# EAGLE library part RTE44009 (library HyTechDevices)
TE/Schrack Double Pull Single Throw Relay 9VDC Datasheet <https://www.te.com/commerce/DocumentDelivery/DDEController?Action=srchrtrv&DocNm=RT2&DocType=DS&DocLang=English> Product Page <https://www.te.com/usa-en/product-3-1393243-1.html?q=rte44009&source=headerl> Digikey <https://www.digikey.com/en/products/detail/te-connectivity-potter-brumfield-relays/RTE44009/1128653?s=N4IgTCBcDaIE4BcCmAWFAGdBOEBdAvkA>
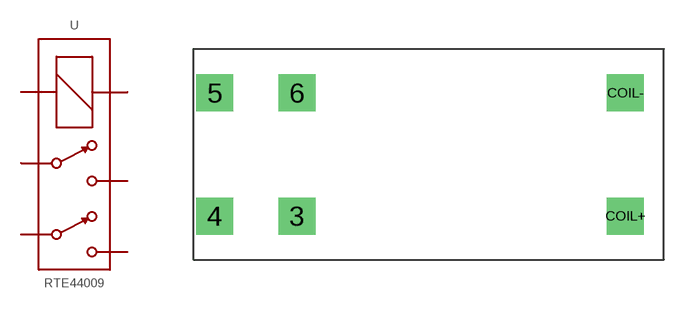
[diagram p43: symbol with the pads of RELAY_DPST; footprint RELAY_DPST]

Designator prefix -

## RTE44009  [RELAY_DPST]
3  3
4  4
5  5
6  6
COIL+  COIL+
COIL-  COIL-

## Footprint RELAY_DPST (pad centres in mm)
drill 1.5 square: 3 5.004,0; 4 0,0; 5 0,7.493; 6 5.004,7.493; COIL+ 25.019,0; COIL- 25.019,7.493